# Altium footprint library Omron Tactile Switches.PcbLib: 2 footprints
Each footprint in its own frame and in the unit in brackets; x right, y up, seen from the top. Pads: shape width x height; smd on the part's side, far side on the other; paste and mask are expansions set on the pad; w line width, h text height; cw(c..) or ccw(c..) is an arc to the next point about the centre after c.
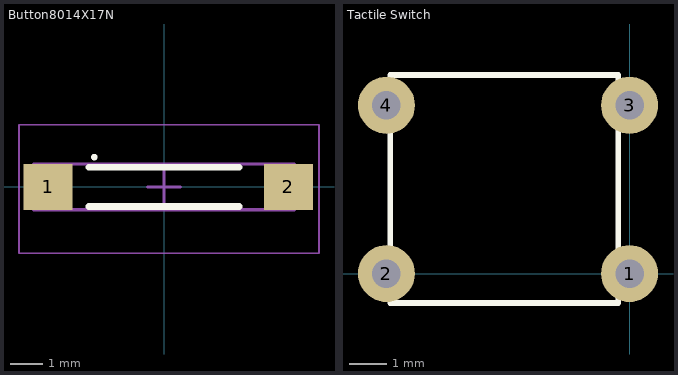
[diagram p0: the footprints below, top view; thin cyan lines are the x and y axes]

## Button8014X17N [mm] "Chip Inductor, 2-Leads, Body 8.00x1.40mm, IPC Medium Density"
height 1.7
pads (2):
  rect 1.5x1.4 smd: 1(-3.556,0) 2(3.81,0)
Top Overlay:
  circle w0.1: c-2.137,0.912 r0.05
  lines w0.2: -2.3,-0.6 2.3,-0.6 ; -2.3,0.6 2.3,0.6
Mechanical 13:
  lines w0.1: -4,-0.7 -4,0.7 4,0.7 4,-0.7 -4,-0.7
Mechanical 15:
  lines w0.05: -4.445,-2.032 -4.445,1.905 4.75,1.905 4.75,-2.032 -4.445,-2.032
  lines w0.1: -0.5,0 0.5,0 ; 0,-0.5 0,0.5
3D body "User Library-SWT-39.step": height 2.5, standoff 0, extent -3.794,-1.922 4.206,1.778

## Tactile Switch [mil]
pads (4):
  round 60 hole 30: 1(0,0) 2(-255.91,0) 3(0,177.17) 4(-255.91,177.17)
Top Overlay:
  lines w6: -252,-31 -252,209 -12,209 -12,-31 -252,-31
3D body "User Library-Tactile switch 6x6x5mm.step": height 197.24, standoff -138.19, extent -277.42,-28.7 27.42,208.71